# Altium schematic symbol library LM2904DR.Schlib: 1 symbol
Pins are listed as number, name and electrical type; pins without a type are passive.

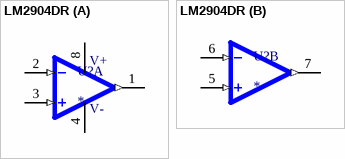
[diagram p0: symbol LM2904DR]

## LM2904DR
designator U?
General Purpose Amplifier 2 Circuit 8-SOIC; MF: Texas Instruments; MP: LM2904DR; Package: SOIC-8 Texas Instruments; Value: *; SnapEDA_Link: https://www.snapeda.com/parts/LM2904DR/Texas%20Instruments/view-part/105730/?ref=snap; Price: None; Supplier 1: Digi-Key; Supplier Part Number 1: 296-14596-1-ND
footprint 8-SOIC
part A pins: 1 OUT1 (out), 2 IN1- (in), 3 IN1+ (in), 4 V- (power), 8 V+ (power)
part B pins: 5 IN2+ (in), 6 IN2- (in), 7 OUT2 (out)